# Altium footprint library LGU1V682MELA.PcbLib: 1 footprints
Each footprint in its own frame and in the unit in brackets; x right, y up, seen from the top. Pads: shape width x height; smd on the part's side, far side on the other; paste and mask are expansions set on the pad; w line width, h text height; cw(c..) or ccw(c..) is an arc to the next point about the centre after c.
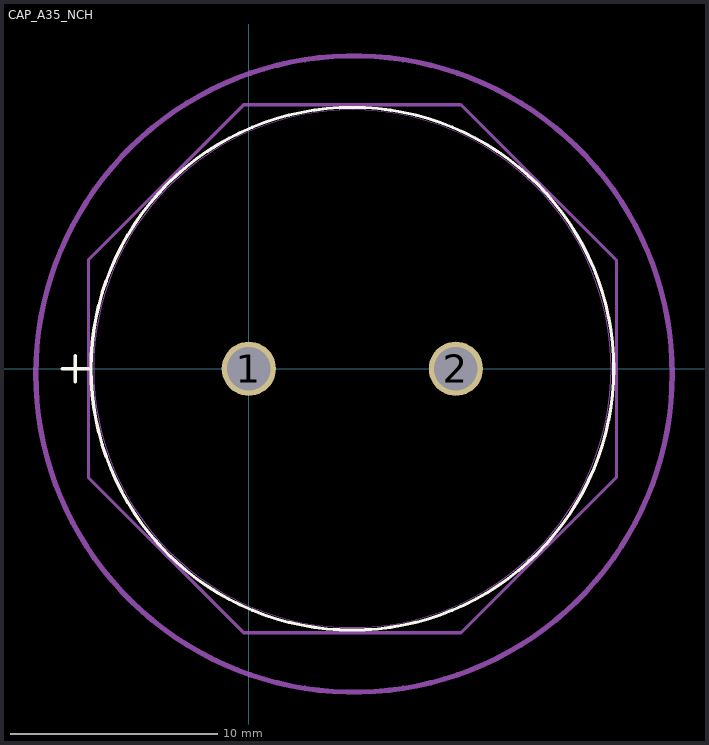
[diagram p0: the footprint, top view; thin cyan lines are the x and y axes]

## CAP_A35_NCH [mil]
pads (2):
  round 103 hole 83 mask+0: 1(0,0) 2(393.7,0)
Top Overlay:
  circle w6: c196.85,0 r497
  lines w6: -355.15,0 -305.15,0 ; -330.15,-25 -330.15,25
Top Assembly:
  circle w10: c200,-10 r605
  text "'.Designator'" at 653.41,443.34 h40
Mechanical 13:
  circle w0: c196.85,0 r492
  lines w1: -355.15,0 -305.15,0 ; -330.15,-25 -330.15,25
Mechanical 15:
  lines w6: -305.15,-206.71 -9.86,-502 403.56,-502 698.85,-206.71 698.85,206.71 403.56,502 -9.86,502 -305.15,206.71 -305.15,-206.71